# EAGLE library part ICL3232CVZ (library Intersil_By_element14_Batch_1)
RS-232 Transmitters/Receivers
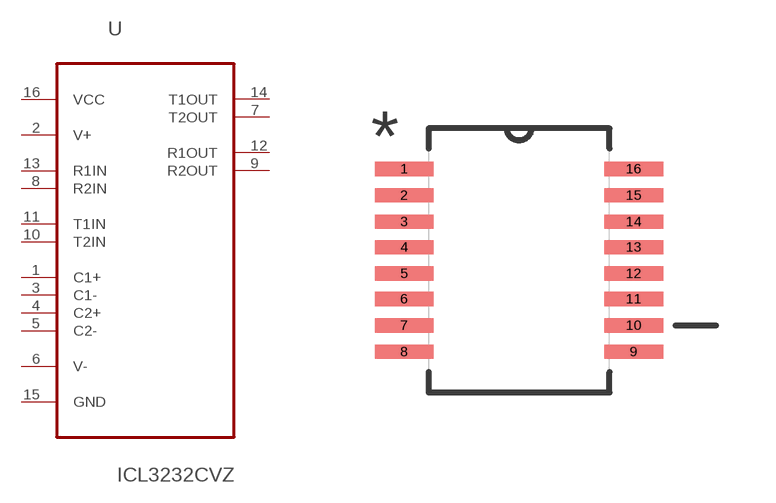
[diagram p169: symbol with the pads of SOP65P640X110-16N; footprint SOP65P640X110-16N]

Designator prefix U

## ICL3232CVZ (MPN: ICL3232CVZ; OC_FARNELL: 1561966; OC_NEWARK: 11J8863; PACKAGE: TSSOP-16; SUPPLIER: INTERSIL)  [SOP65P640X110-16N]
1  C1+  pas
2  V+  pwr
3  C1-  pas
4  C2+  pas
5  C2-  pas
6  V-  pwr
7  T2OUT  out
8  R2IN  in
9  R2OUT  out
10  T2IN  in
11  T1IN  in
12  R1OUT  out
13  R1IN  in
14  T1OUT  out
15  GND  pas
16  VCC  pwr

## Footprint SOP65P640X110-16N (pad centres in mm)
smd 1.473 x 0.356: 1 -2.87,2.286; 2 -2.87,1.626; 3 -2.87,0.965; 4 -2.87,0.33; 5 -2.87,-0.33; 6 -2.87,-0.965; 7 -2.87,-1.626; 8 -2.87,-2.286; 9 2.87,-2.286; 10 2.87,-1.626; 11 2.87,-0.965; 12 2.87,-0.33; 13 2.87,0.33; 14 2.87,0.965; 15 2.87,1.626; 16 2.87,2.286